# EAGLE library part INA219-SOT23-8 (library INA219 )
INA219 Bi-Directional CURRENT/POWER MONITOR with I2C™ Interface http://www.ti.com/lit/ds/symlink/ina219.pdf
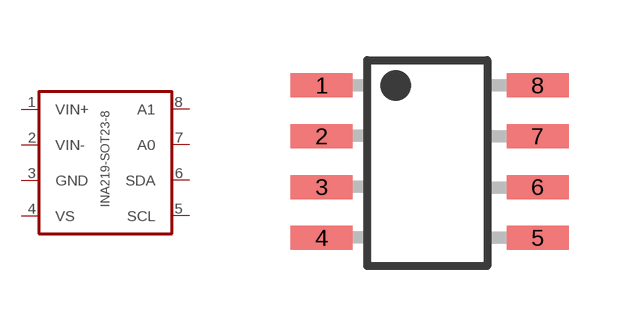
[diagram p0: symbol with the pads of SOT23-8; footprint SOT23-8]

Designator prefix -

## INA219-SOT23-8  [SOT23-8]
1  VIN+  in
2  VIN-  in
3  GND  pwr
4  VS  pwr
5  SCL
6  SDA
7  A0  in
8  A1  in

## Footprint SOT23-8 (pad centres in mm)
smd 1.55 x 0.6: 1 -2.54,1.905; 2 -2.54,0.635; 3 -2.54,-0.635; 4 -2.54,-1.905; 5 2.86,-1.905; 6 2.86,-0.635; 7 2.86,0.635; 8 2.86,1.905